# EAGLE library part WPMDL1300331BD (library SchlegelAr_Master)
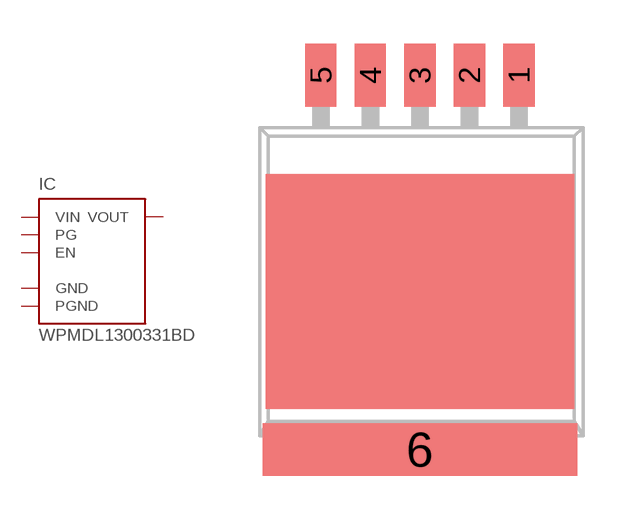
[diagram p12: symbol with the pads of TO263-5; footprint TO263-5]

Designator prefix IC

## WPMDL1300331BD  [TO263-5]
1  VIN
2  GND
3  VOUT
4  PG
5  EN
6  PGND

## Footprint TO263-5 (pad centres in mm)
smd 1.07 x 2.16: 1 3.4,7; 2 1.7,7; 3 0,7; 4 -1.7,7; 5 -3.4,7
smd 10.8 x 1.8: 6 0,-5.87